# Altium footprint library con-phoenix-3.PCBLIB: 12 footprints
Each footprint in its own frame and in the unit in brackets; x right, y up, seen from the top. Pads: shape width x height; smd on the part's side, far side on the other; paste and mask are expansions set on the pad; w line width, h text height; cw(c..) or ccw(c..) is an arc to the next point about the centre after c.
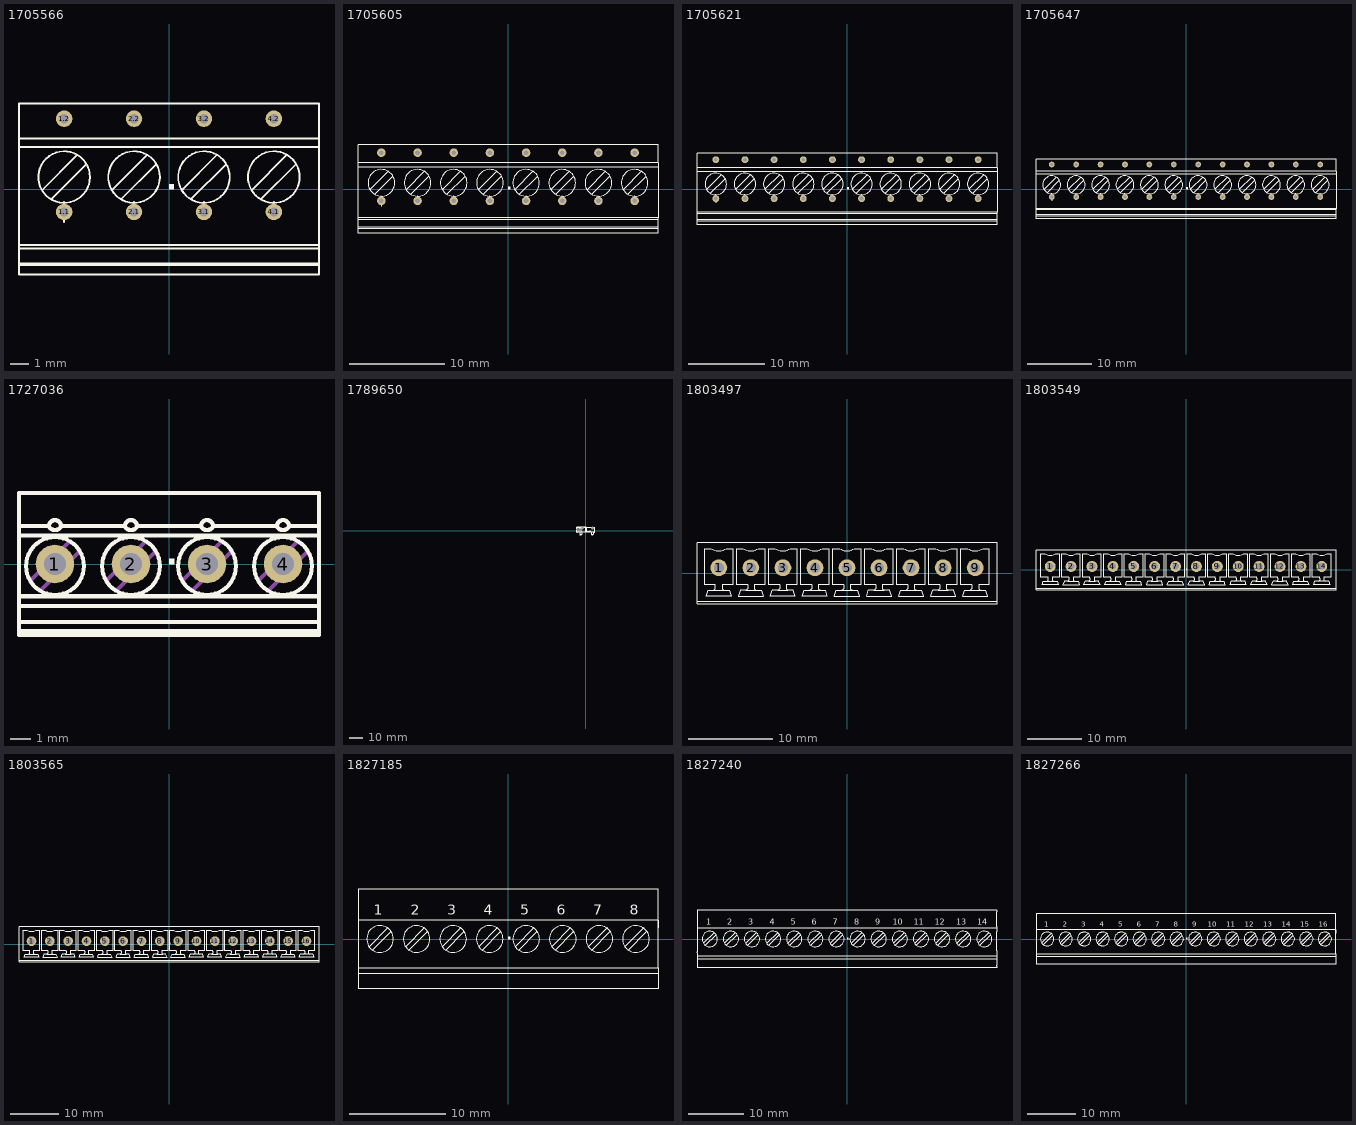
[diagram p0: the footprints below, top view; thin cyan lines are the x and y axes]

## 1705566 [mil]
pads (8):
  round 35.43 hole 19.69: 1.1(-225,-49.21) 1.2(-225,150.79) 2.1(-75,-49.21) 2.2(-75,150.79) 3.1(75,-49.21) 3.2(75,150.79) 4.1(225,-49.21) 4.2(225,150.79)
Top Overlay:
  circle w4: c-225,25.59 r55.37
  circle w4: c-75,25.59 r55.37
  circle w4: c75,25.59 r55.37
  circle w4: c225,25.59 r55.37
  region: 0,0 10,0 10,10 0,10
  lines w4: -272.48,-2.4 -197.01,73.07 ; -252.99,-21.89 -177.52,53.58 ; -225,-70.87 -225,-31.5 -225,-29.53 -225,-27.56 ; -122.48,-2.4 -47.01,73.07 ; -102.99,-21.89 -27.52,53.58 ; -75,-31.5 -75,-29.53 -75,-27.56 ; 27.52,-2.4 102.99,73.07 ; 47.01,-21.89 122.48,53.58 ; 75,-31.5 75,-29.53 75,-27.56 ; 177.52,-2.4 252.99,73.07 ; 197.01,-21.89 272.48,53.58 ; 225,-31.5 225,-29.53 225,-27.56 ; -321.85,-163.39 -321.85,-183.07 321.85,-183.07 321.85,-163.39 ; -321.85,-163.39 321.85,-163.39 ; -321.85,-163.39 -321.85,-159.45 ; -321.85,-159.45 -321.85,-127.95 ; -321.85,-159.45 321.85,-159.45 ; -321.85,-127.95 321.85,-127.95 ; -321.85,-127.95 -321.85,-120.08 ; -321.85,-120.08 321.85,-120.08 ; -321.85,-120.08 -321.85,89.86 ; -321.85,89.86 321.85,89.86 ; -321.85,89.86 -321.85,108.65 ; -321.85,108.65 -321.85,183.07 321.85,183.07 321.85,108.65 ; -321.85,108.65 321.85,108.65 ; 321.85,-163.39 321.85,-159.45 ; 321.85,-159.45 321.85,-127.95 ; 321.85,-127.95 321.85,-120.08 ; 321.85,-120.08 321.85,89.86 ; 321.85,89.86 321.85,108.65

## 1705605 [mil]
pads (16):
  round 35.43 hole 19.69: 1.1(-525,-49.21) 1.2(-525,150.79) 2.1(-375,-49.21) 2.2(-375,150.79) 3.1(-225,-49.21) 3.2(-225,150.79) 4.1(-75,-49.21) 4.2(-75,150.79) 5.1(75,-49.21) 5.2(75,150.79) 6.1(225,-49.21) 6.2(225,150.79) 7.1(375,-49.21) 7.2(375,150.79) 8.1(525,-49.21) 8.2(525,150.79)
Top Overlay:
  circle w4: c-525,25.59 r55.37
  circle w4: c-375,25.59 r55.37
  circle w4: c-225,25.59 r55.37
  circle w4: c-75,25.59 r55.37
  circle w4: c75,25.59 r55.37
  circle w4: c225,25.59 r55.37
  circle w4: c375,25.59 r55.37
  circle w4: c525,25.59 r55.37
  region: 0,0 10,0 10,10 0,10
  lines w4: -572.48,-2.4 -497.01,73.07 ; -552.99,-21.89 -477.52,53.58 ; -525,-70.87 -525,-31.5 -525,-29.53 -525,-27.56 ; -422.48,-2.4 -347.01,73.07 ; -402.99,-21.89 -327.52,53.58 ; -375,-31.5 -375,-29.53 -375,-27.56 ; -272.48,-2.4 -197.01,73.07 ; -252.99,-21.89 -177.52,53.58 ; -225,-31.5 -225,-29.53 -225,-27.56 ; -122.48,-2.4 -47.01,73.07 ; -102.99,-21.89 -27.52,53.58 ; -75,-31.5 -75,-29.53 -75,-27.56 ; 27.52,-2.4 102.99,73.07 ; 47.01,-21.89 122.48,53.58 ; 75,-31.5 75,-29.53 75,-27.56 ; 177.52,-2.4 252.99,73.07 ; 197.01,-21.89 272.48,53.58 ; 225,-31.5 225,-29.53 225,-27.56 ; 327.52,-2.4 402.99,73.07 ; 347.01,-21.89 422.48,53.58 ; 375,-31.5 375,-29.53 375,-27.56 ; 477.52,-2.4 552.99,73.07 ; 497.01,-21.89 572.48,53.58 ; 525,-31.5 525,-29.53 525,-27.56 ; -621.85,-163.39 -621.85,-183.07 621.85,-183.07 621.85,-163.39 ; -621.85,-163.39 621.85,-163.39 ; -621.85,-163.39 -621.85,-159.45 ; -621.85,-159.45 -621.85,-127.95 ; -621.85,-159.45 621.85,-159.45 ; -621.85,-127.95 621.85,-127.95 ; -621.85,-127.95 -621.85,-120.08 ; -621.85,-120.08 621.85,-120.08 ; -621.85,-120.08 -621.85,89.86 ; -621.85,89.86 621.85,89.86 ; -621.85,89.86 -621.85,108.65 ; -621.85,108.65 -621.85,183.07 621.85,183.07 621.85,108.65 ; -621.85,108.65 621.85,108.65 ; 621.85,-163.39 621.85,-159.45 ; 621.85,-159.45 621.85,-127.95 ; 621.85,-127.95 621.85,-120.08 ; 621.85,-120.08 621.85,89.86 ; 621.85,89.86 621.85,108.65

## 1705621 [mil]
pads (20):
  round 35.43 hole 19.69: 1.1(-675,-49.21) 1.2(-675,150.79) 2.1(-525,-49.21) 2.2(-525,150.79) 3.1(-375,-49.21) 3.2(-375,150.79) 4.1(-225,-49.21) 4.2(-225,150.79) 5.1(-75,-49.21) 5.2(-75,150.79) 6.1(75,-49.21) 6.2(75,150.79) 7.1(225,-49.21) 7.2(225,150.79) 8.1(375,-49.21) 8.2(375,150.79) 9.1(525,-49.21) 9.2(525,150.79) 10.1(675,-49.21) 10.2(675,150.79)
Top Overlay:
  circle w4: c-675,25.59 r55.37
  circle w4: c-525,25.59 r55.37
  circle w4: c-375,25.59 r55.37
  circle w4: c-225,25.59 r55.37
  circle w4: c-75,25.59 r55.37
  circle w4: c75,25.59 r55.37
  circle w4: c225,25.59 r55.37
  circle w4: c375,25.59 r55.37
  circle w4: c525,25.59 r55.37
  circle w4: c675,25.59 r55.37
  region: 0,0 10,0 10,10 0,10
  lines w4: -722.48,-2.4 -647.01,73.07 ; -702.99,-21.89 -627.52,53.58 ; -675,-70.87 -675,-31.5 -675,-29.53 -675,-27.56 ; -572.48,-2.4 -497.01,73.07 ; -552.99,-21.89 -477.52,53.58 ; -525,-31.5 -525,-29.53 -525,-27.56 ; -422.48,-2.4 -347.01,73.07 ; -402.99,-21.89 -327.52,53.58 ; -375,-31.5 -375,-29.53 -375,-27.56 ; -272.48,-2.4 -197.01,73.07 ; -252.99,-21.89 -177.52,53.58 ; -225,-31.5 -225,-29.53 -225,-27.56 ; -122.48,-2.4 -47.01,73.07 ; -102.99,-21.89 -27.52,53.58 ; -75,-31.5 -75,-29.53 -75,-27.56 ; 27.52,-2.4 102.99,73.07 ; 47.01,-21.89 122.48,53.58 ; 75,-31.5 75,-29.53 75,-27.56 ; 177.52,-2.4 252.99,73.07 ; 197.01,-21.89 272.48,53.58 ; 225,-31.5 225,-29.53 225,-27.56 ; 327.52,-2.4 402.99,73.07 ; 347.01,-21.89 422.48,53.58 ; 375,-31.5 375,-29.53 375,-27.56 ; 477.52,-2.4 552.99,73.07 ; 497.01,-21.89 572.48,53.58 ; 525,-31.5 525,-29.53 525,-27.56 ; 627.52,-2.4 702.99,73.07 ; 647.01,-21.89 722.48,53.58 ; 675,-31.5 675,-29.53 675,-27.56 ; -771.85,-163.39 -771.85,-183.07 771.85,-183.07 771.85,-163.39 ; -771.85,-163.39 771.85,-163.39 ; -771.85,-163.39 -771.85,-159.45 ; -771.85,-159.45 -771.85,-127.95 ; -771.85,-159.45 771.85,-159.45 ; -771.85,-127.95 771.85,-127.95 ; -771.85,-127.95 -771.85,-120.08 ; -771.85,-120.08 771.85,-120.08 ; -771.85,-120.08 -771.85,89.86 ; -771.85,89.86 771.85,89.86 ; -771.85,89.86 -771.85,108.65 ; -771.85,108.65 -771.85,183.07 771.85,183.07 771.85,108.65 ; -771.85,108.65 771.85,108.65 ; 771.85,-163.39 771.85,-159.45 ; 771.85,-159.45 771.85,-127.95 ; 771.85,-127.95 771.85,-120.08 ; 771.85,-120.08 771.85,89.86 ; 771.85,89.86 771.85,108.65

## 1705647 [mil]
pads (24):
  round 35.43 hole 19.69: 1.1(-825,-49.21) 1.2(-825,150.79) 2.1(-675,-49.21) 2.2(-675,150.79) 3.1(-525,-49.21) 3.2(-525,150.79) 4.1(-375,-49.21) 4.2(-375,150.79) 5.1(-225,-49.21) 5.2(-225,150.79) 6.1(-75,-49.21) 6.2(-75,150.79) 7.1(75,-49.21) 7.2(75,150.79) 8.1(225,-49.21) 8.2(225,150.79) 9.1(375,-49.21) 9.2(375,150.79) 10.1(525,-49.21) 10.2(525,150.79) 11.1(675,-49.21) 11.2(675,150.79) 12.1(825,-49.21) 12.2(825,150.79)
Top Overlay:
  circle w4: c-825,25.59 r55.37
  circle w4: c-675,25.59 r55.37
  circle w4: c-525,25.59 r55.37
  circle w4: c-375,25.59 r55.37
  circle w4: c-225,25.59 r55.37
  circle w4: c-75,25.59 r55.37
  circle w4: c75,25.59 r55.37
  circle w4: c225,25.59 r55.37
  circle w4: c375,25.59 r55.37
  circle w4: c525,25.59 r55.37
  circle w4: c675,25.59 r55.37
  circle w4: c825,25.59 r55.37
  region: 0,0 10,0 10,10 0,10
  lines w4: -872.48,-2.4 -797.01,73.07 ; -852.99,-21.89 -777.52,53.58 ; -825,-70.87 -825,-31.5 -825,-29.53 -825,-27.56 ; -722.48,-2.4 -647.01,73.07 ; -702.99,-21.89 -627.52,53.58 ; -675,-31.5 -675,-29.53 -675,-27.56 ; -572.48,-2.4 -497.01,73.07 ; -552.99,-21.89 -477.52,53.58 ; -525,-31.5 -525,-29.53 -525,-27.56 ; -422.48,-2.4 -347.01,73.07 ; -402.99,-21.89 -327.52,53.58 ; -375,-31.5 -375,-29.53 -375,-27.56 ; -272.48,-2.4 -197.01,73.07 ; -252.99,-21.89 -177.52,53.58 ; -225,-31.5 -225,-29.53 -225,-27.56 ; -122.48,-2.4 -47.01,73.07 ; -102.99,-21.89 -27.52,53.58 ; -75,-31.5 -75,-29.53 -75,-27.56 ; 27.52,-2.4 102.99,73.07 ; 47.01,-21.89 122.48,53.58 ; 75,-31.5 75,-29.53 75,-27.56 ; 177.52,-2.4 252.99,73.07 ; 197.01,-21.89 272.48,53.58 ; 225,-31.5 225,-29.53 225,-27.56 ; 327.52,-2.4 402.99,73.07 ; 347.01,-21.89 422.48,53.58 ; 375,-31.5 375,-29.53 375,-27.56 ; 477.52,-2.4 552.99,73.07 ; 497.01,-21.89 572.48,53.58 ; 525,-31.5 525,-29.53 525,-27.56 ; 627.52,-2.4 702.99,73.07 ; 647.01,-21.89 722.48,53.58 ; 675,-31.5 675,-29.53 675,-27.56 ; 777.52,-2.4 852.99,73.07 ; 797.01,-21.89 872.48,53.58 ; 825,-31.5 825,-29.53 825,-27.56 ; -921.85,-163.39 -921.85,-183.07 921.85,-183.07 921.85,-163.39 ; -921.85,-163.39 921.85,-163.39 ; -921.85,-163.39 -921.85,-159.45 ; -921.85,-159.45 -921.85,-127.95 ; -921.85,-159.45 921.85,-159.45 ; -921.85,-127.95 921.85,-127.95 ; -921.85,-127.95 -921.85,-120.08 ; -921.85,-120.08 921.85,-120.08 ; -921.85,-120.08 -921.85,89.86 ; -921.85,89.86 921.85,89.86 ; -921.85,89.86 -921.85,108.65 ; -921.85,108.65 -921.85,183.07 921.85,183.07 921.85,108.65 ; -921.85,108.65 921.85,108.65 ; 921.85,-163.39 921.85,-159.45 ; 921.85,-159.45 921.85,-127.95 ; 921.85,-127.95 921.85,-120.08 ; 921.85,-120.08 921.85,89.86 ; 921.85,89.86 921.85,108.65

## 1727036 [mil]
pads (4):
  round 76 hole 43.31: 1(-225,0) 2(-75,0) 3(75,0) 4(225,0)
Top Overlay:
  drawing of 233 lines, arcs and shapes, not listed
Mechanical 16:
  lines w8: -272.48,-31.93 -246.32,-5.77 ; -252.99,-51.42 -225.2,-23.62 -225,-23.43 ; -197.01,43.54 -221.2,19.35 -225,15.55 ; -177.52,24.06 -203.35,-1.77 ; -122.48,-31.93 -96.32,-5.77 ; -102.99,-51.42 -75.2,-23.62 -75,-23.43 ; -47.01,43.54 -71.2,19.35 -75,15.55 ; -27.52,24.06 -53.35,-1.77 ; 27.52,-31.93 53.68,-5.77 ; 47.01,-51.42 74.8,-23.62 75,-23.43 ; 102.99,43.54 78.8,19.35 75,15.55 ; 122.48,24.06 96.65,-1.77 ; 177.52,-31.93 203.68,-5.77 ; 197.01,-51.42 224.8,-23.62 225,-23.43 ; 252.99,43.54 228.8,19.35 225,15.55 ; 272.48,24.06 246.65,-1.77 ; -246.32,-5.77 -225,15.55 ; -246.32,-5.77 -225,19.69 -225,15.55 ; -225,-23.43 -225,-23.62 -203.35,-1.77 ; -225,-23.43 -203.35,-1.77 ; -96.32,-5.77 -75,15.55 ; -96.32,-5.77 -75,19.69 -75,15.55 ; -75,-23.43 -53.35,-1.77 ; -75,-23.43 -75,-23.62 -53.35,-1.77 ; 53.68,-5.77 75,15.55 ; 53.68,-5.77 75,19.69 75,15.55 ; 75,-23.43 96.65,-1.77 ; 75,-23.43 75,-23.62 96.65,-1.77 ; 203.68,-5.77 225,15.55 ; 203.68,-5.77 225,19.69 225,15.55 ; 225,-23.43 225,-23.62 246.65,-1.77 ; 225,-23.43 246.65,-1.77

## 1789650 [mm]
pads (2):
  round 2 hole 1.3: A(-2.58,2.054) B(5.04,2.054)
Top Overlay:
  drawing of 166 lines, arcs and shapes, not listed

## 1803497 [mm]
pads (9):
  round 2 hole 1.2: 1(-15.24,0.635) 2(-11.43,0.635) 3(-7.62,0.635) 4(-3.81,0.635) 5(0,0.635) 6(3.81,0.635) 7(7.62,0.635) 8(11.43,0.635) 9(15.24,0.635)
Top Overlay:
  drawing of 161 lines, arcs and shapes, not listed
Mechanical 16:
  lines w0.102: -15.64,0.225 -15.372,0.493 ; -15.64,0.225 -14.84,0.225 ; -15.64,0.225 -15.64,1.025 ; -15.64,1.025 -15.372,0.757 ; -15.64,1.025 -14.84,1.025 ; -15.372,0.493 -15.108,0.493 ; -15.372,0.493 -15.372,0.757 ; -15.372,0.757 -15.108,0.757 ; -15.108,0.493 -14.84,0.225 ; -15.108,0.493 -15.108,0.757 ; -15.108,0.757 -14.84,1.025 ; -14.84,0.225 -14.84,1.025 ; -11.83,0.225 -11.562,0.493 ; -11.83,0.225 -11.03,0.225 ; -11.83,0.225 -11.83,1.025 ; -11.83,1.025 -11.562,0.757 ; -11.83,1.025 -11.03,1.025 ; -11.562,0.493 -11.562,0.757 ; -11.562,0.493 -11.298,0.493 ; -11.562,0.757 -11.298,0.757 ; -11.298,0.493 -11.03,0.225 ; -11.298,0.493 -11.298,0.757 ; -11.298,0.757 -11.03,1.025 ; -11.03,0.225 -11.03,1.025 ; -8.02,0.225 -7.22,0.225 ; -8.02,0.225 -7.752,0.493 ; -8.02,0.225 -8.02,1.025 ; -8.02,1.025 -7.22,1.025 ; -8.02,1.025 -7.752,0.757 ; -7.752,0.493 -7.752,0.757 ; -7.752,0.493 -7.488,0.493 ; -7.752,0.757 -7.488,0.757 ; -7.488,0.493 -7.22,0.225 ; -7.488,0.493 -7.488,0.757 ; -7.488,0.757 -7.22,1.025 ; -7.22,0.225 -7.22,1.025 ; -4.21,0.225 -3.942,0.493 ; -4.21,0.225 -3.41,0.225 ; -4.21,0.225 -4.21,1.025 ; -4.21,1.025 -3.942,0.757 ; -4.21,1.025 -3.41,1.025 ; -3.942,0.493 -3.678,0.493 ; -3.942,0.493 -3.942,0.757 ; -3.942,0.757 -3.678,0.757 ; -3.678,0.493 -3.41,0.225 ; -3.678,0.493 -3.678,0.757 ; -3.678,0.757 -3.41,1.025 ; -3.41,0.225 -3.41,1.025 ; -0.4,0.225 -0.4,1.025 ; -0.4,0.225 -0.132,0.493 ; -0.4,0.225 0.4,0.225 ; -0.4,1.025 0.4,1.025 ; -0.4,1.025 -0.132,0.757 ; -0.132,0.493 -0.132,0.757 ; -0.132,0.493 0.132,0.493 ; -0.132,0.757 0.132,0.757 ; 0.132,0.493 0.4,0.225 ; 0.132,0.493 0.132,0.757 ; 0.132,0.757 0.4,1.025 ; 0.4,0.225 0.4,1.025 ; 3.41,0.225 4.21,0.225 ; 3.41,0.225 3.678,0.493 ; 3.41,0.225 3.41,1.025 ; 3.41,1.025 4.21,1.025 ; 3.41,1.025 3.678,0.757 ; 3.678,0.493 3.942,0.493 ; 3.678,0.493 3.678,0.757 ; 3.678,0.757 3.942,0.757 ; 3.942,0.493 4.21,0.225 ; 3.942,0.493 3.942,0.757 ; 3.942,0.757 4.21,1.025 ; 4.21,0.225 4.21,1.025 ; 7.22,0.225 8.02,0.225 ; 7.22,0.225 7.488,0.493 ; 7.22,0.225 7.22,1.025 ; 7.22,1.025 8.02,1.025 ; 7.22,1.025 7.488,0.757 ; 7.488,0.493 7.752,0.493 ; 7.488,0.493 7.488,0.757 ; 7.488,0.757 7.752,0.757 ; 7.752,0.493 8.02,0.225 ; 7.752,0.493 7.752,0.757 ; 7.752,0.757 8.02,1.025 ; 8.02,0.225 8.02,1.025 ; 11.03,0.225 11.83,0.225 ; 11.03,0.225 11.298,0.493 ; 11.03,0.225 11.03,1.025 ; 11.03,1.025 11.298,0.757 ; 11.03,1.025 11.83,1.025 ; 11.298,0.493 11.562,0.493 ; 11.298,0.493 11.298,0.757 ; 11.298,0.757 11.562,0.757 ; 11.562,0.493 11.83,0.225 ; 11.562,0.493 11.562,0.757 ; 11.562,0.757 11.83,1.025 ; 11.83,0.225 11.83,1.025 ; 14.84,0.225 15.108,0.493 ; 14.84,0.225 15.64,0.225 ; 14.84,0.225 14.84,1.025 ; 14.84,1.025 15.108,0.757 ; 14.84,1.025 15.64,1.025 ; 15.108,0.493 15.372,0.493 ; 15.108,0.493 15.108,0.757 ; 15.108,0.757 15.372,0.757 ; 15.372,0.493 15.64,0.225 ; 15.372,0.493 15.372,0.757 ; 15.372,0.757 15.64,1.025 ; 15.64,0.225 15.64,1.025

## 1803549 [mm]
pads (14):
  round 2 hole 1.2: 1(-24.765,0.635) 2(-20.955,0.635) 3(-17.145,0.635) 4(-13.335,0.635) 5(-9.525,0.635) 6(-5.715,0.635) 7(-1.905,0.635) 8(1.905,0.635) 9(5.715,0.635) 10(9.525,0.635) 11(13.335,0.635) 12(17.145,0.635) 13(20.955,0.635) 14(24.765,0.635)
Top Overlay:
  drawing of 365 lines, arcs and shapes, not listed
Mechanical 16:
  drawing of 196 lines, arcs and shapes, not listed

## 1803565 [mm]
pads (16):
  round 2 hole 1.2: 1(-28.575,0.635) 2(-24.765,0.635) 3(-20.955,0.635) 4(-17.145,0.635) 5(-13.335,0.635) 6(-9.525,0.635) 7(-5.715,0.635) 8(-1.905,0.635) 9(1.905,0.635) 10(5.715,0.635) 11(9.525,0.635) 12(13.335,0.635) 13(17.145,0.635) 14(20.955,0.635) 15(24.765,0.635) 16(28.575,0.635)
Top Overlay:
  drawing of 403 lines, arcs and shapes, not listed
Mechanical 16:
  drawing of 224 lines, arcs and shapes, not listed

## 1827185 [mil]
Top Overlay:
  circle w4: c-525,0 r54.85
  circle w4: c-375,0 r54.85
  circle w4: c-225,0 r54.85
  circle w4: c-75,0 r54.85
  circle w4: c75,0 r54.85
  circle w4: c225,0 r54.85
  circle w4: c375,0 r54.85
  circle w4: c525,0 r54.85
  region: 0,0 10,0 10,10 0,10
  lines w4: -570.31,-31.39 -493.61,45.31 ; -556.39,-45.31 -479.69,31.39 ; -420.31,-31.39 -343.61,45.31 ; -406.39,-45.31 -329.69,31.39 ; -270.31,-31.39 -193.61,45.31 ; -256.39,-45.31 -179.69,31.39 ; -120.31,-31.39 -43.61,45.31 ; -106.39,-45.31 -29.69,31.39 ; 29.69,-31.39 106.39,45.31 ; 43.61,-45.31 120.31,31.39 ; 179.69,-31.39 256.39,45.31 ; 193.61,-45.31 270.31,31.39 ; 329.69,-31.39 406.39,45.31 ; 343.61,-45.31 420.31,31.39 ; 479.69,-31.39 556.39,45.31 ; 493.61,-45.31 570.31,31.39 ; 615.55,46.69 615.55,76.77 ; 615.55,51.84 615.55,76.77 ; -615.55,-140.94 615.55,-140.94 ; -615.55,-140.94 -615.55,-118.11 ; -615.55,-140.94 -615.55,-204.72 615.55,-204.72 615.55,-140.94 ; -615.55,-118.11 615.55,-118.11 ; -615.55,-118.11 -615.55,76.77 ; -615.55,76.77 615.55,76.77 ; -615.55,76.77 -615.55,204.72 615.55,204.72 615.55,76.77 ; 615.55,-140.94 615.55,-118.11 ; 615.55,-118.11 615.55,76.77
  text "1" at -550,100 h42.5
  text "2" at -400,100 h42.5
  text "3" at -250,100 h42.5
  text "4" at -100,100 h42.5
  text "5" at 50,100 h42.5
  text "6" at 200,100 h42.5
  text "7" at 350,100 h42.5
  text "8" at 500,100 h42.5

## 1827240 [mil]
Top Overlay:
  drawing of 185 lines, arcs and shapes, not listed
  text "1" at -1000,100 h42.5
  text "2" at -850,100 h42.5
  text "3" at -700,100 h42.5
  text "4" at -550,100 h42.5
  text "5" at -400,100 h42.5
  text "6" at -250,100 h42.5
  text "7" at -100,100 h42.5
  text "8" at 50,100 h42.5
  text "9" at 200,100 h42.5
  text "10" at 325,100 h42.5
  text "11" at 475,100 h42.5
  text "12" at 625,100 h42.5
  text "13" at 775,100 h42.5
  text "14" at 925,100 h42.5

## 1827266 [mil]
Top Overlay:
  circle w4: c-1125,0 r54.85
  circle w4: c-975,0 r54.85
  circle w4: c-825,0 r54.85
  circle w4: c-675,0 r54.85
  circle w4: c-525,0 r54.85
  circle w4: c-375,0 r54.85
  circle w4: c-225,0 r54.85
  circle w4: c-75,0 r54.85
  circle w4: c75,0 r54.85
  circle w4: c225,0 r54.85
  circle w4: c375,0 r54.85
  circle w4: c525,0 r54.85
  circle w4: c675,0 r54.85
  circle w4: c825,0 r54.85
  circle w4: c975,0 r54.85
  circle w4: c1125,0 r54.85
  region: 0,0 10,0 10,10 0,10
  lines w4: -1170.31,-31.39 -1093.61,45.31 ; -1156.39,-45.31 -1079.69,31.39 ; -1020.31,-31.39 -943.61,45.31 ; -1006.39,-45.31 -929.69,31.39 ; -870.31,-31.39 -793.61,45.31 ; -856.39,-45.31 -779.69,31.39 ; -720.31,-31.39 -643.61,45.31 ; -706.39,-45.31 -629.69,31.39 ; -570.31,-31.39 -493.61,45.31 ; -556.39,-45.31 -479.69,31.39 ; -420.31,-31.39 -343.61,45.31 ; -406.39,-45.31 -329.69,31.39 ; -270.31,-31.39 -193.61,45.31 ; -256.39,-45.31 -179.69,31.39 ; -120.31,-31.39 -43.61,45.31 ; -106.39,-45.31 -29.69,31.39 ; 29.69,-31.39 106.39,45.31 ; 43.61,-45.31 120.31,31.39 ; 179.69,-31.39 256.39,45.31 ; 193.61,-45.31 270.31,31.39 ; 329.69,-31.39 406.39,45.31 ; 343.61,-45.31 420.31,31.39 ; 479.69,-31.39 556.39,45.31 ; 493.61,-45.31 570.31,31.39 ; 629.69,-31.39 706.39,45.31 ; 643.61,-45.31 720.31,31.39 ; 779.69,-31.39 856.39,45.31 ; 793.61,-45.31 870.31,31.39 ; 929.69,-31.39 1006.39,45.31 ; 943.61,-45.31 1020.31,31.39 ; 1079.69,-31.39 1156.39,45.31 ; 1093.61,-45.31 1170.31,31.39 ; 1215.55,46.69 1215.55,76.77 ; 1215.55,51.84 1215.55,76.77 ; -1215.55,-140.94 1215.55,-140.94 ; -1215.55,-140.94 -1215.55,-118.11 ; -1215.55,-140.94 -1215.55,-204.72 1215.55,-204.72 1215.55,-140.94 ; -1215.55,-118.11 1215.55,-118.11 ; -1215.55,-118.11 -1215.55,76.77 ; -1215.55,76.77 1215.55,76.77 ; -1215.55,76.77 -1215.55,204.72 1215.55,204.72 1215.55,76.77 ; 1215.55,-140.94 1215.55,-118.11 ; 1215.55,-118.11 1215.55,76.77
  text "1" at -1150,100 h42.5
  text "2" at -1000,100 h42.5
  text "3" at -850,100 h42.5
  text "4" at -700,100 h42.5
  text "5" at -550,100 h42.5
  text "6" at -400,100 h42.5
  text "7" at -250,100 h42.5
  text "8" at -100,100 h42.5
  text "9" at 50,100 h42.5
  text "10" at 175,100 h42.5
  text "11" at 325,100 h42.5
  text "12" at 475,100 h42.5
  text "13" at 625,100 h42.5
  text "14" at 775,100 h42.5
  text "15" at 925,100 h42.5
  text "16" at 1075,100 h42.5